# EAGLE library part 555_TIMER (library meltylib)
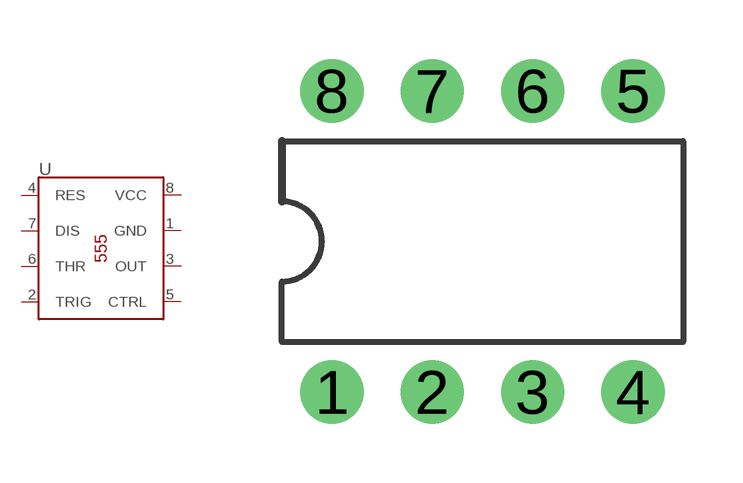
[diagram p1: symbol with the pads of DIL08; footprint DIL08]

Designator prefix U

## 555_TIMER_DIP8  [DIL08]
1  GND
2  TRIG
3  OUT
4  RES
5  CTRL
6  THR
7  DIS
8  VCC

## Footprint DIL08 (pad centres in mm)
Dual In Line
drill 0.813 pad 1.6: 1 -3.81,-3.81; 2 -1.27,-3.81; 3 1.27,-3.81; 4 3.81,-3.81; 5 3.81,3.81; 6 1.27,3.81; 7 -1.27,3.81; 8 -3.81,3.81